# Altium footprint library 电阻.PcbLib: 63 footprints (part 1 of 4)
Each footprint in its own frame and in the unit in brackets; x right, y up, seen from the top. Pads: shape width x height; smd on the part's side, far side on the other; paste and mask are expansions set on the pad; w line width, h text height; cw(c..) or ccw(c..) is an arc to the next point about the centre after c.
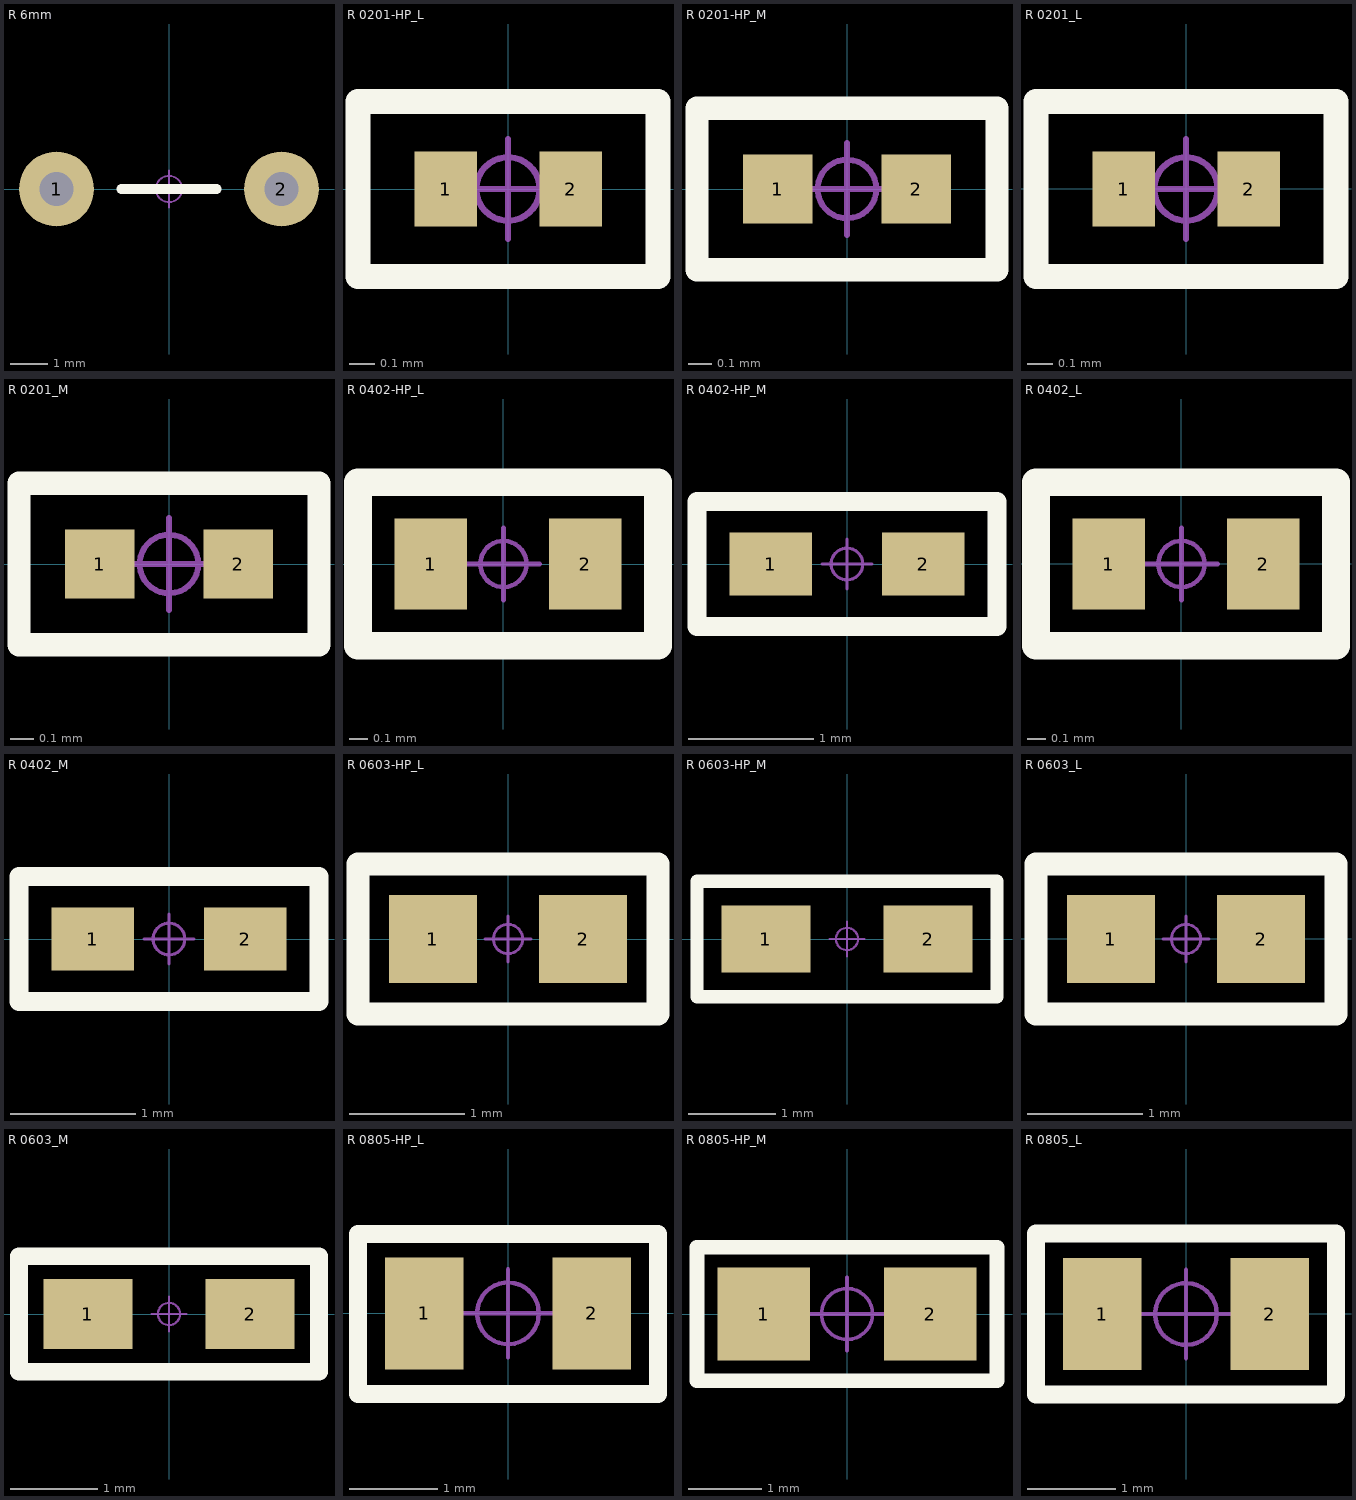
[diagram p0: the footprints below, top view; thin cyan lines are the x and y axes]

## R 6mm [mm] "跳线电阻"
pads (2):
  round 2 hole 0.9: 1(-3,0) 2(3,0)
Top Overlay:
  lines w0.254: -1.27,0 1.27,0
Mechanical 15:
  circle w0.05: c0,0 r0.35
  lines w0.05: -0.5,0 0.5,0 ; 0,-0.5 0,0.5

## R 0201-HP_L [mm] "1/20W高精度贴片电阻"
pads (2):
  rect 0.25x0.3 smd: 1(-0.25,0) 2(0.25,0)
Top Overlay:
  lines w0.102: -0.6,-0.35 -0.6,0.35 0.6,0.35 0.6,-0.35 -0.6,-0.35
Mechanical 15:
  circle w0.025: c0,0 r0.127
  lines w0.025: -0.2,0 0.2,0 ; 0,-0.2 0,0.2
3D body "R 0201-HP.STEP": height 0.23, standoff 0, extent -0.3,-0.15 0.3,0.15

## R 0201-HP_M [mm] "1/20W高精度贴片电阻"
pads (2):
  rect 0.3x0.3 smd: 1(-0.3,0) 2(0.3,0)
Top Overlay:
  lines w0.102: -0.65,-0.35 -0.65,0.35 0.65,0.35 0.65,-0.35 -0.65,-0.35
Mechanical 15:
  circle w0.025: c0,0 r0.127
  lines w0.025: -0.2,0 0.2,0 ; 0,-0.2 0,0.2
3D body "R 0201-HP.STEP": height 0.23, standoff 0, extent -0.3,-0.15 0.3,0.15

## R 0201_L [mm] "1/20W贴片电阻"
pads (2):
  rect 0.25x0.3 smd: 1(-0.25,0) 2(0.25,0)
Top Overlay:
  lines w0.102: -0.6,-0.35 -0.6,0.35 0.6,0.35 0.6,-0.35 -0.6,-0.35
Mechanical 15:
  circle w0.025: c0,0 r0.127
  lines w0.025: -0.2,0 0.2,0 ; 0,-0.2 0,0.2
3D body "R 0201.STEP": height 0.23, standoff 0, extent -0.3,-0.15 0.3,0.15

## R 0201_M [mm] "1/20W贴片电阻"
pads (2):
  rect 0.3x0.3 smd: 1(-0.3,0) 2(0.3,0)
Top Overlay:
  lines w0.102: -0.65,-0.35 0.65,-0.35 0.65,0.35 -0.65,0.35 -0.65,-0.35
Mechanical 15:
  circle w0.025: c0,0 r0.127
  lines w0.025: -0.2,0 0.2,0 ; 0,-0.2 0,0.2
3D body "R 0201.STEP": height 0.23, standoff 0, extent -0.3,-0.15 0.3,0.15

## R 0402-HP_L [mm] "1/16W高精度贴片电阻"
pads (2):
  rect 0.4x0.5 smd: 1(-0.4,0) 2(0.45,0)
Top Overlay:
  lines w0.152: -0.8,-0.45 0.85,-0.45 0.85,0.45 -0.8,0.45 -0.8,-0.45
Mechanical 15:
  circle w0.025: c0,0 r0.127
  lines w0.025: -0.2,0 0.2,0 ; 0,-0.2 0,0.2
3D body "R 0402-HP.STEP": height 0.3, standoff 0, extent -0.5,-0.25 0.5,0.25

## R 0402-HP_M [mil] "1/16W高精度贴片电阻"
pads (2):
  rect 26x20 smd: 1(-24,0) 2(24,0)
Top Overlay:
  lines w6: -47.24,-19.68 -47.24,19.68 47.24,19.68 47.24,-19.68 -47.24,-19.68
Mechanical 15:
  circle w1: c0,0 r5
  lines w1: -7.87,0 7.87,0 ; 0,-7.87 0,7.87
3D body "R 0402-HP.STEP": height 11.85, standoff -0.09, extent -19.68,-9.84 19.7,9.85

## R 0402_L [mm] "1/16W贴片电阻"
pads (2):
  rect 0.4x0.5 smd: 1(-0.4,0) 2(0.45,0)
Top Overlay:
  lines w0.152: -0.8,-0.45 0.85,-0.45 0.85,0.45 -0.8,0.45 -0.8,-0.45
Mechanical 15:
  circle w0.025: c0,0 r0.127
  lines w0.025: -0.2,0 0.2,0 ; 0,-0.2 0,0.2
3D body "R 0402.STEP": height 0.3, standoff 0, extent -0.5,-0.25 0.5,0.25

## R 0402_M [mil] "1/16W贴片电阻"
pads (2):
  rect 26x20 smd: 1(-24,0) 2(24,0)
Top Overlay:
  lines w6: -47.24,-19.68 47.24,-19.68 47.24,19.68 -47.24,19.68 -47.24,-19.68
Mechanical 15:
  circle w1: c0,0 r5
  lines w1: -7.87,0 7.87,0 ; 0,-7.87 0,7.87
3D body "R 0402.STEP": height 11.85, standoff -0.09, extent -19.68,-9.84 19.69,9.85

## R 0603-HP_L [mil] "1/10W高精度贴片电阻"
pads (2):
  rect 30x30 smd: 1(-25.59,0) 2(25.59,0)
Top Overlay:
  lines w8: -51.18,-25.59 51.18,-25.59 51.18,25.59 -51.18,25.59 -51.18,-25.59
Mechanical 15:
  circle w1: c0,0 r5
  lines w1: -7.87,0 7.87,0 ; 0,-7.87 0,7.87
3D body "R 0603-HP.STEP": height 15.79, standoff -0.16, extent -31.49,-15.74 31.5,15.75

## R 0603-HP_M [mil] "1/10W高精度贴片电阻"
pads (2):
  rect 40x30 smd: 1(-36.5,0) 2(36.5,0)
Top Overlay:
  lines w6: -67.5,-26 -67.5,26 67.5,26 67.5,-26 -67.5,-26
Mechanical 15:
  circle w1: c0,0 r5
  lines w1: -7.87,0 7.87,0 ; 0,-7.87 0,7.87
3D body "R 0603-HP.STEP": height 15.79, standoff -0.16, extent -31.49,-15.74 31.5,15.75

## R 0603_L [mil] "1/10W贴片电阻"
pads (2):
  rect 30x30 smd: 1(-25.59,0) 2(25.59,0)
Top Overlay:
  lines w8: -51.18,-25.59 -51.18,25.59 51.18,25.59 51.18,-25.59 -51.18,-25.59
Mechanical 15:
  circle w1: c0,0 r5
  lines w1: -7.87,0 7.87,0 ; 0,-7.87 0,7.87
3D body "R 0603.STEP": height 15.79, standoff -0.13, extent -31.49,-15.74 31.5,15.75

## R 0603_M [mil] "1/10W贴片电阻"
pads (2):
  rect 40x31.5 smd: 1(-36.5,0) 2(36.5,0)
Top Overlay:
  lines w8: -67.5,-26 67.5,-26 67.5,26 -67.5,26 -67.5,-26
Mechanical 15:
  circle w1: c0,0 r5
  lines w1: -7.87,0 7.87,0 ; 0,-7.87 0,7.87
3D body "R 0603.STEP": height 15.79, standoff -0.13, extent -31.49,-15.74 31.5,15.75

## R 0805-HP_L [mm] "1/8W高精度贴片电阻"
pads (2):
  rect 0.889x1.27 smd: 1(-0.95,0) 2(0.95,0)
Top Overlay:
  lines w0.203: -1.7,-0.914 -1.7,0.9 1.7,0.9 1.7,-0.914 -1.7,-0.914
Mechanical 15:
  circle w0.05: c0,0 r0.35
  lines w0.05: -0.5,0 0.5,0 ; 0,-0.5 0,0.5
3D body "R 0805-HP.STEP": height 0.5, standoff -0.01, extent -1,-0.625 1,0.625

## R 0805-HP_M [mil] "1/8W高精度贴片电阻"
pads (2):
  rect 50x50 smd: 1(-45,0) 2(45,0)
Top Overlay:
  lines w8: -81,-36 -81,36 81,36 81,-36 -81,-36
Mechanical 15:
  circle w1.97: c0,0 r13.78
  lines w1.97: -19.68,0 19.68,0 ; 0,-19.68 0,19.68
3D body "R 0805-HP.STEP": height 19.72, standoff -0.24, extent -39.37,-24.6 39.37,24.61

## R 0805_L [mil] "1/8W贴片电阻"
pads (2):
  rect 35x50 smd: 1(-37.4,0) 2(37.4,0)
Top Overlay:
  lines w8: -66.93,-36 66.93,-36 66.93,36 -66.93,36 -66.93,-36
Mechanical 15:
  circle w1.97: c0,0 r13.78
  lines w1.97: -19.68,0 19.68,0 ; 0,-19.68 0,19.68
3D body "R 0805.STEP": height 19.72, standoff -0.24, extent -39.37,-24.6 39.37,24.61